# EAGLE library part 74F1071SCX (library Fairchild_By_element14_Batch_1)
18-Bit Undershoot/Overshoot Clamp and ESD Protection Device
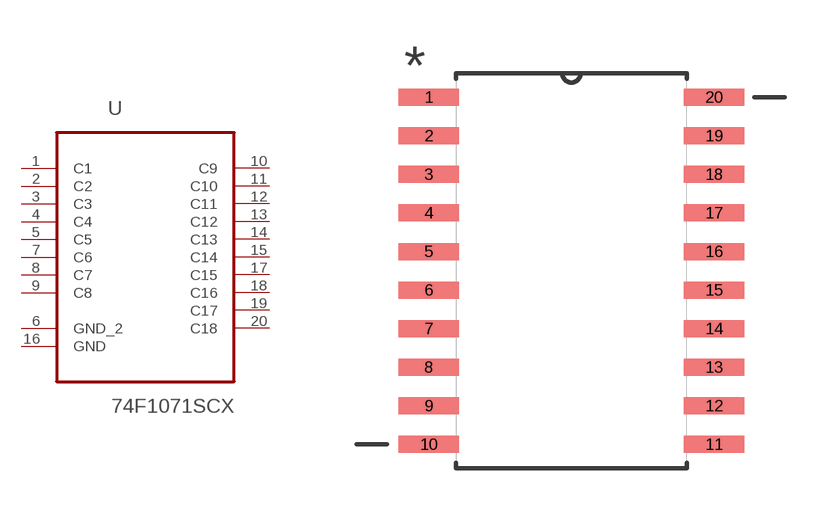
[diagram p57: symbol with the pads of SOIC127P1032X265-20N; footprint SOIC127P1032X265-20N]

Designator prefix U

## 74F1071SCX (MPN: 74F1071SCX; OC_FARNELL: -; OC_NEWARK: 78K6250; PACKAGE: SOIC-20; SUPPLIER: Fairchild)  [SOIC127P1032X265-20N]
1  C1
2  C2
3  C3
4  C4
5  C5
6  GND_2  pas
7  C6
8  C7
9  C8
10  C9
11  C10
12  C11
13  C12
14  C13
15  C14
16  GND  pas
17  C15
18  C16
19  C17
20  C18

## Footprint SOIC127P1032X265-20N (pad centres in mm)
smd 1.981 x 0.559: 1 -4.699,5.715; 2 -4.699,4.445; 3 -4.699,3.175; 4 -4.699,1.905; 5 -4.699,0.635; 6 -4.699,-0.635; 7 -4.699,-1.905; 8 -4.699,-3.175; 9 -4.699,-4.445; 10 -4.699,-5.715; 11 4.699,-5.715; 12 4.699,-4.445; 13 4.699,-3.175; 14 4.699,-1.905; 15 4.699,-0.635; 16 4.699,0.635; 17 4.699,1.905; 18 4.699,3.175; 19 4.699,4.445; 20 4.699,5.715